# EAGLE library part MICRO_BCU_2X5_1.27 (library MicroBCU_PCB)
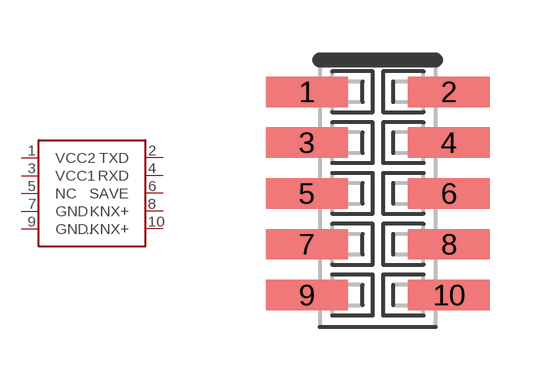
[diagram p4: symbol with the pads of MICRO_BCU_2X5_1.27_PINS; footprint MICRO_BCU_2X5_1.27_PINS]

Designator prefix -

## MICRO_BCU_2X5_1.27  [MICRO_BCU_2X5_1.27_PINS]
1  VCC2  pwr
2  TXD
3  VCC1  pwr
4  RXD
5  NC
6  SAVE
7  GND  pwr
8  KNX+
9  GND.  pwr
10  .KNX+

## Footprint MICRO_BCU_2X5_1.27_PINS (pad centres in mm)
smd 2.05 x 0.76: 1 -1.78,2.54; 2 1.78,2.54; 3 -1.78,1.27; 4 1.78,1.27; 5 -1.78,0; 6 1.78,0; 7 -1.78,-1.27; 8 1.78,-1.27; 9 -1.78,-2.54; 10 1.78,-2.54